# EAGLE library part MICROCHIP_MCP3002-I-P (library Upverter Library)
CON-ADC-MCP3002-8
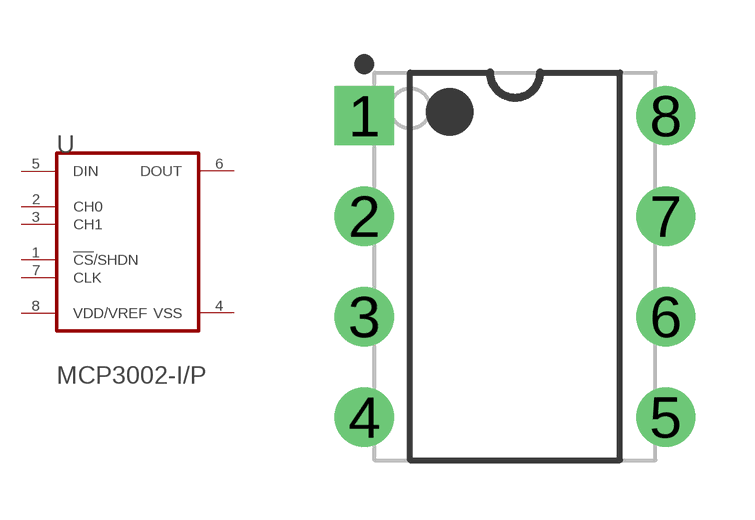
[diagram p0: symbol with the pads of MICROCHIP_MCP3002-I-P_0; footprint MICROCHIP_MCP3002-I-P_0]

Designator prefix U

## MICROCHIP_MCP3002-I-PMICROCHIP_MCP3002-I-P_0_0 (Code__JEDEC: MS-001; Component_Link_1_Description: Manufacturer URL; Component_Link_1_URL: http://www.microchip.com/; Component_Link_3_Description: Package Specification; Component_Link_3_URL: http://www.microchip.com/stellent/groups/techpub_sg/documents/packagingspec/en012702.pdf; Datasheet_Version: revE, Nov-2011; MF: Microchip; MPN: MCP3002-I/P; Package_Description: 8-Lead Plastic Dual In-Line (P) - 300 mil Body [PDIP]; Package_Version: revBB, Aug-2009; ciiva_ids: 2293973; datasheet: http://ww1.microchip.com/downloads/en/DeviceDoc/21294E.pdf; footprint_variant_name_0: Manufacturer Recommended; import_ts: 1521843716; imported: yes; imported_from: vault; package: PDIP300-P8; pin_0_0_6_inside_edge: clock; prefix: U; release_date: 1331962296; vault_guid: 4280AEAC-333D-4A10-9336-C9C485D9AFF8; vault_revision: F0AB36E4-60F8-4ABB-915A-FEDE2A98AA95)  [MICROCHIP_MCP3002-I-P_0]
1  !CS!/SHDN  in
2  CH0  in
3  CH1  in
4  VSS  pwr
5  DIN  in
6  DOUT  hiz
7  CLK  in
8  VDD/VREF  pwr

## Footprint MICROCHIP_MCP3002-I-P_0 (pad centres in mm)
CON-ADC-MCP3002-8
drill 0.9 pad 1.5 square: 1 -3.81,3.81
drill 0.9 pad 1.5 round: 2 -3.81,1.27; 3 -3.81,-1.27; 4 -3.81,-3.81; 5 3.81,-3.81; 6 3.81,-1.27; 7 3.81,1.27; 8 3.81,3.81